# Altium schematic symbol library Developement_Kit.SchLib: 3 symbols
Pins are listed as number, name and electrical type; pins without a type are passive.

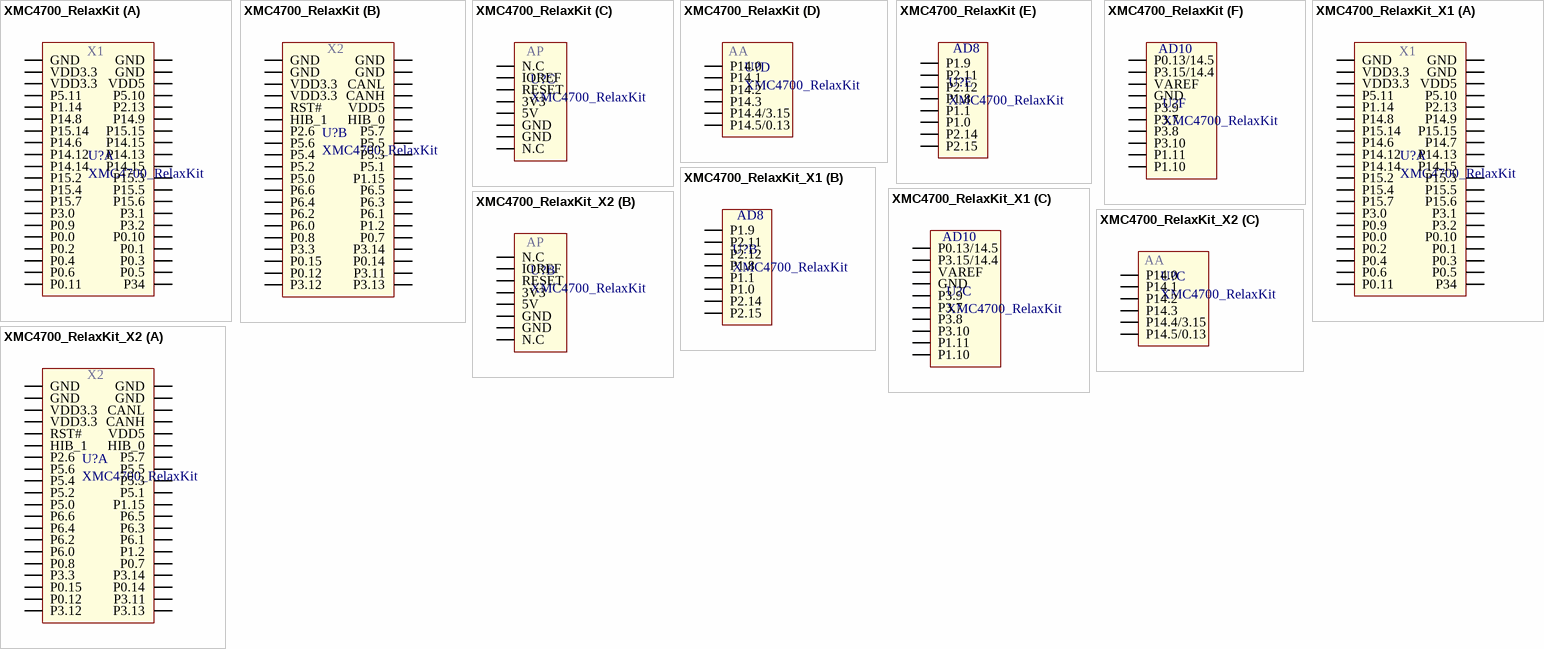
[diagram p0: symbols XMC4700_RelaxKit to XMC4700_RelaxKit_X2]

## XMC4700_RelaxKit
designator U?
footprint XMC4700_RelaxKit
part A pins: X1_1 P34, X1_2 P0.11, X1_3 P0.5, X1_4 P0.6, X1_5 P0.3, X1_6 P0.4, X1_7 P0.1, X1_8 P0.2, X1_9 P0.10, X1_10 P0.0, X1_11 P3.2, X1_12 P0.9, X1_13 P3.1, X1_14 P3.0, X1_15 P15.6, X1_16 P15.7, X1_17 P15.5, X1_18 P15.4, X1_19 P15.3, X1_20 P15.2, X1_21 P14.15, X1_22 P14.14, X1_23 P14.13, X1_24 P14.12, X1_25 P14.15, X1_26 P14.6, X1_27 P15.15, X1_28 P15.14, X1_29 P14.9, X1_30 P14.8, X1_31 P2.13, X1_32 P1.14, X1_33 P5.10, X1_34 P5.11, X1_35 VDD5, X1_36 VDD3.3, X1_37 GND, X1_38 VDD3.3, X1_39 GND, X1_40 GND
part B pins: X2_1 P3.13, X2_2 P3.12, X2_3 P3.11, X2_4 P0.12, X2_5 P0.14, X2_6 P0.15, X2_7 P3.14, X2_8 P3.3, X2_9 P0.7, X2_10 P0.8, X2_11 P1.2, X2_12 P6.0, X2_13 P6.1, X2_14 P6.2, X2_15 P6.3, X2_16 P6.4, X2_17 P6.5, X2_18 P6.6, X2_19 P1.15, X2_20 P5.0, X2_21 P5.1, X2_22 P5.2, X2_23 P5.3, X2_24 P5.4, X2_25 P5.5, X2_26 P5.6, X2_27 P5.7, X2_28 P2.6, X2_29 HIB_0, X2_30 HIB_1, X2_31 VDD5, X2_32 RST#, X2_33 CANH, X2_34 VDD3.3, X2_35 CANL, X2_36 VDD3.3, X2_37 GND, X2_38 GND, X2_39 GND, X2_40 GND
part C pins: AP_1 N.C, AP_2 IOREF, AP_3 RESET, AP_4 3V3, AP_5 5V, AP_6 GND, AP_7 GND, AP_8 N.C
part D pins: AA_1 P14.0, AA_2 P14.1, AA_3 P14.2, AA_4 P14.3, AA_5 P14.4/3.15, AA_6 P14.5/0.13
part E pins: AD8_1 P2.15, AD8_2 P2.14, AD8_3 P1.0, AD8_4 P1.1, AD8_5 P1.8, AD8_6 P2.12, AD8_7 P2.11, AD8_8 P1.9
part F pins: AD10_1 P1.10, AD10_2 P1.11, AD10_3 P3.10, AD10_4 P3.8, AD10_5 P3.7, AD10_6 P3.9, AD10_7 GND, AD10_8 VAREF, AD10_9 P3.15/14.4, AD10_10 P0.13/14.5
part A text: X1
part B text: X2
part C text: AP
part D text: AA
part E text: AD8
part F text: AD10

## XMC4700_RelaxKit_X1
designator U?, comment XMC4700_RelaxKit
footprint XMC4700_RelaxKit _X1
part A pins: X1_1 P34, X1_2 P0.11, X1_3 P0.5, X1_4 P0.6, X1_5 P0.3, X1_6 P0.4, X1_7 P0.1, X1_8 P0.2, X1_9 P0.10, X1_10 P0.0, X1_11 P3.2, X1_12 P0.9, X1_13 P3.1, X1_14 P3.0, X1_15 P15.6, X1_16 P15.7, X1_17 P15.5, X1_18 P15.4, X1_19 P15.3, X1_20 P15.2, X1_21 P14.15, X1_22 P14.14, X1_23 P14.13, X1_24 P14.12, X1_25 P14.7, X1_26 P14.6, X1_27 P15.15, X1_28 P15.14, X1_29 P14.9, X1_30 P14.8, X1_31 P2.13, X1_32 P1.14, X1_33 P5.10, X1_34 P5.11, X1_35 VDD5, X1_36 VDD3.3, X1_37 GND, X1_38 VDD3.3, X1_39 GND, X1_40 GND
part B pins: AD8_1 P2.15, AD8_2 P2.14, AD8_3 P1.0, AD8_4 P1.1, AD8_5 P1.8, AD8_6 P2.12, AD8_7 P2.11, AD8_8 P1.9
part C pins: AD10_1 P1.10, AD10_2 P1.11, AD10_3 P3.10, AD10_4 P3.8, AD10_5 P3.7, AD10_6 P3.9, AD10_7 GND, AD10_8 VAREF, AD10_9 P3.15/14.4, AD10_10 P0.13/14.5
part A text: X1
part B text: AD8
part C text: AD10

## XMC4700_RelaxKit_X2
designator U?, comment XMC4700_RelaxKit
footprint XMC4700_RelaxKit _X2
part A pins: X2_1 P3.13, X2_2 P3.12, X2_3 P3.11, X2_4 P0.12, X2_5 P0.14, X2_6 P0.15, X2_7 P3.14, X2_8 P3.3, X2_9 P0.7, X2_10 P0.8, X2_11 P1.2, X2_12 P6.0, X2_13 P6.1, X2_14 P6.2, X2_15 P6.3, X2_16 P6.4, X2_17 P6.5, X2_18 P6.6, X2_19 P1.15, X2_20 P5.0, X2_21 P5.1, X2_22 P5.2, X2_23 P5.3, X2_24 P5.4, X2_25 P5.5, X2_26 P5.6, X2_27 P5.7, X2_28 P2.6, X2_29 HIB_0, X2_30 HIB_1, X2_31 VDD5, X2_32 RST#, X2_33 CANH, X2_34 VDD3.3, X2_35 CANL, X2_36 VDD3.3, X2_37 GND, X2_38 GND, X2_39 GND, X2_40 GND
part B pins: AP_1 N.C, AP_2 IOREF, AP_3 RESET, AP_4 3V3, AP_5 5V, AP_6 GND, AP_7 GND, AP_8 N.C
part C pins: AA_1 P14.0, AA_2 P14.1, AA_3 P14.2, AA_4 P14.3, AA_5 P14.4/3.15, AA_6 P14.5/0.13
part A text: X2
part B text: AP
part C text: AA